# Altium schematic symbol library ADM3054BRWZ.SchLib: 1 symbol
Pins are listed as number, name and electrical type; pins without a type are passive.

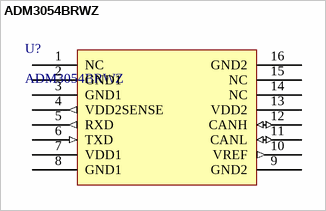
[diagram p0: symbol ADM3054BRWZ]

## ADM3054BRWZ
designator U?
footprint SOIC127P1030X265-16N (SOIC, 16-Leads, Body 10,30x7,50mm, Pitch 1,27mm, IPC Medium Density)
pins: 1 NC, 2 GND1, 3 GND1, 4 VDD2SENSE (out), 5 RXD (out), 6 TXD (in), 7 VDD1 (power), 8 GND1 (power), 9 GND2 (power), 10 VREF (out), 11 CANL (io), 12 CANH (io), 13 VDD2 (power), 14 NC, 15 NC, 16 GND2 (power)